# Altium footprint library SamacSys.PcbLib: 61 footprints (part 2 of 4)
Each footprint in its own frame and in the unit in brackets; x right, y up, seen from the top. Pads: shape width x height; smd on the part's side, far side on the other; paste and mask are expansions set on the pad; w line width, h text height; cw(c..) or ccw(c..) is an arc to the next point about the centre after c.
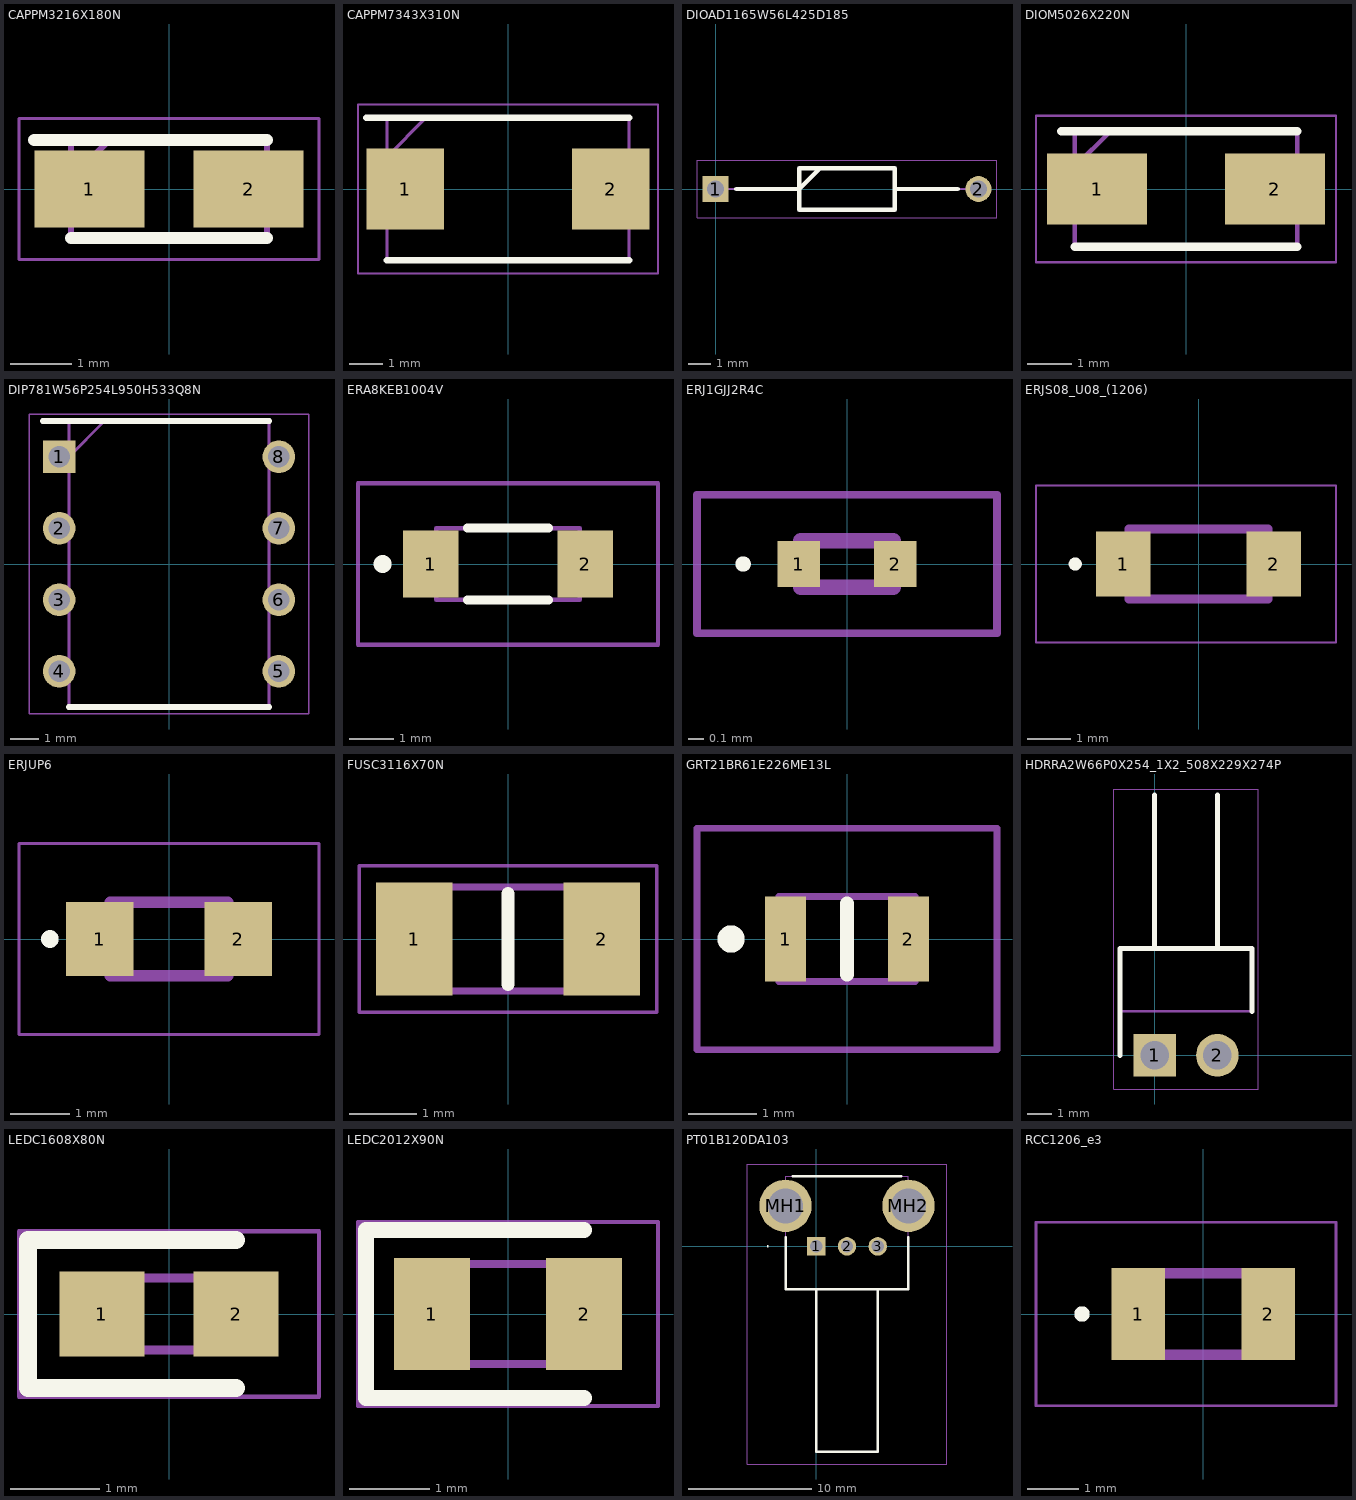
[diagram p1: the footprints below, top view; thin cyan lines are the x and y axes]

## CAPPM3216X180N [mm]
pads (2):
  rect 1.8x1.25 smd: 1(-1.3,0) 2(1.3,0)
Top Overlay:
  lines w0.2: -2.2,0.8 1.6,0.8 ; -1.6,-0.8 1.6,-0.8
Mechanical 13:
  lines w0.1: -1.6,0.175 -0.975,0.8 ; -1.6,-0.8 -1.6,0.8 1.6,0.8 1.6,-0.8 -1.6,-0.8
Mechanical 15:
  lines w0.05: -2.45,-1.15 -2.45,1.15 2.45,1.15 2.45,-1.15 -2.45,-1.15
3D body "293D226X9004A2TE3.stp": height 1.83, standoff 0, extent -1.704,-0.949 1.7,0.949

## CAPPM7343X310N [mm]
pads (2):
  rect 2.35x2.45 smd: 1(-3.1,0) 2(3.1,0)
Top Overlay:
  lines w0.2: -4.275,2.15 3.65,2.15 ; -3.65,-2.15 3.65,-2.15
Mechanical 13:
  lines w0.1: -3.65,0.975 -2.475,2.15 ; -3.65,-2.15 -3.65,2.15 3.65,2.15 3.65,-2.15 -3.65,-2.15
Mechanical 15:
  lines w0.05: -4.525,-2.55 -4.525,2.55 4.525,2.55 4.525,-2.55 -4.525,-2.55
3D body "593D476X9016D2TE3.stp": height 2.92, standoff 0, extent -3.59,-2.209 3.598,2.207

## DIOAD1165W56L425D185 [mm]
pads (2):
  rect 1.15x1.15 hole 0.75: 1(0,0)
  round 1.15 hole 0.75: 2(11.7,0)
Top Overlay:
  lines w0.2: 0.925,0 3.725,0 4.65,0.925 ; 7.975,0 10.775,0 ; 3.725,-0.925 3.725,0.925 7.975,0.925 7.975,-0.925 3.725,-0.925
Mechanical 13:
  lines w0.1: 0,0 3.725,0 4.65,0.925 ; 7.975,0 11.7,0 ; 3.725,-0.925 3.725,0.925 7.975,0.925 7.975,-0.925 3.725,-0.925
Mechanical 15:
  lines w0.05: -0.825,-1.275 -0.825,1.275 12.525,1.275 12.525,-1.275 -0.825,-1.275
3D body "1N4148,133.stp": height 32.04, standoff -28.96, extent 0.958,1.687 2.668,3.388

## DIOM5026X220N [mm]
pads (2):
  rect 2.25x1.6 smd: 1(-2,0) 2(2,0)
Top Overlay:
  lines w0.2: -2.8,1.3 2.5,1.3 ; -2.5,-1.3 2.5,-1.3
Mechanical 13:
  lines w0.1: -2.5,0.5 -1.7,1.3 ; -2.5,-1.3 -2.5,1.3 2.5,1.3 2.5,-1.3 -2.5,-1.3
Mechanical 15:
  lines w0.05: -3.375,-1.65 -3.375,1.65 3.375,1.65 3.375,-1.65 -3.375,-1.65
3D body "RB168L-60TFTE25.stp": height 2.2, standoff 0, extent -2.5,-1.3 2.5,1.3

## DIP781W56P254L950H533Q8N [mm]
pads (8):
  rect 1.159x1.159 hole 0.759: 1(-3.905,3.81)
  round 1.159 hole 0.759: 2(-3.905,1.27) 3(-3.905,-1.27) 4(-3.905,-3.81) 5(3.905,-3.81) 6(3.905,-1.27) 7(3.905,1.27) 8(3.905,3.81)
Top Overlay:
  lines w0.2: -4.485,5.08 3.556,5.08 ; -3.556,-5.08 3.556,-5.08
Mechanical 13:
  lines w0.1: -3.556,3.81 -2.286,5.08 ; -3.556,-5.08 -3.556,5.08 3.556,5.08 3.556,-5.08 -3.556,-5.08
Mechanical 15:
  lines w0.05: -4.957,-5.33 -4.957,5.33 4.957,5.33 4.957,-5.33 -4.957,-5.33
3D body "MCP602-E_P.stp": height 5.33, standoff -3.5, extent -4.045,-4.75 4.045,4.75

## ERA8KEB1004V [mm]
pads (2):
  rect 1.25x1.5 smd: 1(-1.725,0) 2(1.725,0)
Top Overlay:
  lines w0.2: -0.9,-0.8 0.9,-0.8 ; -0.9,0.8 0.9,0.8 ; -2.8,-0.1 ccw(c-2.8,0) -2.8,0.1 ccw(c-2.8,0) -2.8,-0.1
Mechanical 13:
  lines w0.1: -1.6,-0.8 -1.6,0.8 1.6,0.8 1.6,-0.8 -1.6,-0.8
Mechanical 15:
  lines w0.1: -3.35,-1.8 -3.35,1.8 3.35,1.8 3.35,-1.8 -3.35,-1.8
3D body "ERA-8VEB1540V.stp": height 0.65, standoff 0, extent -1.6,-0.8 1.6,0.8

## ERJ1GJJ2R4C [mm]
pads (2):
  rect 0.275x0.3 smd: 1(-0.313,0) 2(0.313,0)
Top Overlay:
  lines w0.05: -0.675,-0.025 ccw(c-0.675,0) -0.675,0.025 ccw(c-0.675,0) -0.675,-0.025
Mechanical 13:
  lines w0.1: -0.3,-0.15 -0.3,0.15 0.3,0.15 0.3,-0.15 -0.3,-0.15
Mechanical 15:
  lines w0.05: -0.975,-0.45 -0.975,0.45 0.975,0.45 0.975,-0.45 -0.975,-0.45
3D body "ERJ-1GJF4700C.stp": height 0.23, standoff 0, extent -0.3,-0.15 0.3,0.15

## ERJS08_U08_(1206) [mm]
pads (2):
  rect 1.25x1.5 smd: 1(-1.725,0) 2(1.725,0)
Top Overlay:
  circle w0.2: c-2.825,0 r0.05
Mechanical 13:
  lines w0.2: -1.6,-0.8 -1.6,0.8 1.6,0.8 1.6,-0.8 -1.6,-0.8
Mechanical 15:
  lines w0.05: -3.725,-1.8 -3.725,1.8 3.15,1.8 3.15,-1.8 -3.725,-1.8
3D body "ERJ-S08F1101V.stp": height 0.6, standoff 0, extent -1.6,-0.8 1.6,0.8

## ERJUP6 [mm]
pads (2):
  rect 1.15x1.25 smd: 1(-1.175,0) 2(1.175,0)
Top Overlay:
  circle w0.2: c-2.025,0 r0.05
Mechanical 13:
  lines w0.2: -1,-0.625 -1,0.625 1,0.625 1,-0.625 -1,-0.625
Mechanical 15:
  lines w0.05: -2.55,-1.625 -2.55,1.625 2.55,1.625 2.55,-1.625 -2.55,-1.625
3D body "ERJ-UP6D1601V.stp": height 0.6, standoff 0, extent -1,-0.625 1,0.625

## FUSC3116X70N [mm]
pads (2):
  rect 1.14x1.68 smd: 1(-1.395,0) 2(1.395,0)
Top Overlay:
  lines w0.2: 0,-0.675 0,0.675
Mechanical 13:
  lines w0.1: -1.55,-0.775 -1.55,0.775 1.55,0.775 1.55,-0.775 -1.55,-0.775
Mechanical 15:
  lines w0.05: -2.215,-1.09 -2.215,1.09 2.215,1.09 2.215,-1.09 -2.215,-1.09
3D body "SF-1206FP125-2.stp": height 0.7, standoff 0, extent -1.55,-0.775 1.55,0.775

## GRT21BR61E226ME13L [mm]
pads (2):
  rect 0.6x1.25 smd: 1(-0.9,0) 2(0.9,0)
Top Overlay:
  lines w0.2: 0,-0.525 0,0.525 ; -1.7,-0.1 ccw(c-1.7,0) -1.7,0.1 ccw(c-1.7,0) -1.7,-0.1
Mechanical 13:
  lines w0.1: -1,-0.625 -1,0.625 1,0.625 1,-0.625 -1,-0.625
Mechanical 15:
  lines w0.1: -2.2,-1.625 -2.2,1.625 2.2,1.625 2.2,-1.625 -2.2,-1.625
3D body "GRT21BR61H475KE13L.stp": height 1.45, standoff 0, extent -1.14,-0.625 1.14,0.625

## HDRRA2W66P0X254_1X2_508X229X274P [mm]
pads (2):
  rect 1.725x1.725 hole 1.15: 1(0,0)
  round 1.725 hole 1.15: 2(2.54,0)
Top Overlay:
  lines w0.2: -1.395,0 -1.395,4.32 3.935,4.32 3.935,1.78 ; 0,4.32 0,10.52 ; 2.54,4.32 2.54,10.52
Mechanical 13:
  lines w0.1: -1.395,1.78 3.935,1.78 3.935,4.32 -1.395,4.32 -1.395,1.78
Mechanical 15:
  lines w0.05: -1.645,-1.362 -1.645,10.77 4.185,10.77 4.185,-1.362 -1.645,-1.362
3D body "22-28-8024.stp": height 2.37, standoff -3.54, extent -1.27,-0.591 3.81,10.001

## LEDC1608X80N [mm]
pads (2):
  rect 0.95x0.95 smd: 1(-0.75,0) 2(0.75,0)
Top Overlay:
  lines w0.2: 0.75,-0.825 -1.575,-0.825 -1.575,0.825 0.75,0.825
Mechanical 13:
  lines w0.1: -0.8,0.133 -0.533,0.4 ; -0.8,-0.4 -0.8,0.4 0.8,0.4 0.8,-0.4 -0.8,-0.4
Mechanical 15:
  lines w0.05: -1.675,-0.925 -1.675,0.925 1.675,0.925 1.675,-0.925 -1.675,-0.925
3D body "150060VS75000.stp": height 0.7, standoff 0, extent -0.83,-0.4 0.77,0.4

## LEDC2012X90N [mm]
pads (2):
  rect 0.95x1.4 smd: 1(-0.95,0) 2(0.95,0)
Top Overlay:
  lines w0.2: 0.95,-1.05 -1.775,-1.05 -1.775,1.05 0.95,1.05
Mechanical 13:
  lines w0.1: -1,0.208 -0.583,0.625 ; -1,-0.625 1,-0.625 1,0.625 -1,0.625 -1,-0.625
Mechanical 15:
  lines w0.05: -1.875,-1.15 1.875,-1.15 1.875,1.15 -1.875,1.15 -1.875,-1.15
3D body "HSML-C170-T0000.stp": height 0.8, standoff -0.02, extent -1.015,-0.625 1.015,0.625

## PT01B120DA103 [mm]
pads (5):
  rect 1.5x1.5 hole 1: 1(0,0)
  round 1.5 hole 1: 2(2.5,0) 3(5,0)
  round 4.26 hole 2.84: MH1(-2.5,3.3) MH2(7.5,3.3)
Top Overlay:
  lines w0.1: -4,0 ccw(c-3.95,0) -3.9,0 ccw(c-3.95,0) -4,0
  lines w0.2: -2.5,0.76 -2.5,-3.5 7.5,-3.5 7.5,0.76 ; -1.9,5.7 6.9,5.7 ; 0,-3.5 0,-16.7 5,-16.7 5,-3.5
Mechanical 13:
  lines w0.1: 0,-3.5 0,-16.7 5,-16.7 5,-3.5 ; -2.5,-3.5 7.5,-3.5 7.5,5.7 -2.5,5.7 -2.5,-3.5
Mechanical 15:
  lines w0.1: -5.63,-17.7 10.63,-17.7 10.63,6.7 -5.63,6.7 -5.63,-17.7

## RCC1206_e3 [mm]
pads (2):
  rect 1.05x1.8 smd: 1(-1.275,0) 2(1.275,0)
Top Overlay:
  circle w0.2: c-2.375,0 r0.05
Mechanical 13:
  lines w0.2: -1.6,-0.8 -1.6,0.8 1.6,0.8 1.6,-0.8 -1.6,-0.8
Mechanical 15:
  lines w0.05: -3.275,-1.8 -3.275,1.8 2.6,1.8 2.6,-1.8 -3.275,-1.8
3D body "RCC12061K00FKEA.stp": height 0.55, standoff 0, extent -1.6,-0.8 1.6,0.8